# EAGLE library part IR2104 (library IR2104)
HALF BRIDGE DRIVER Check availability <https://pricing.snapeda.com/parts/IR2104/Infineon/view-part?ref=eda>
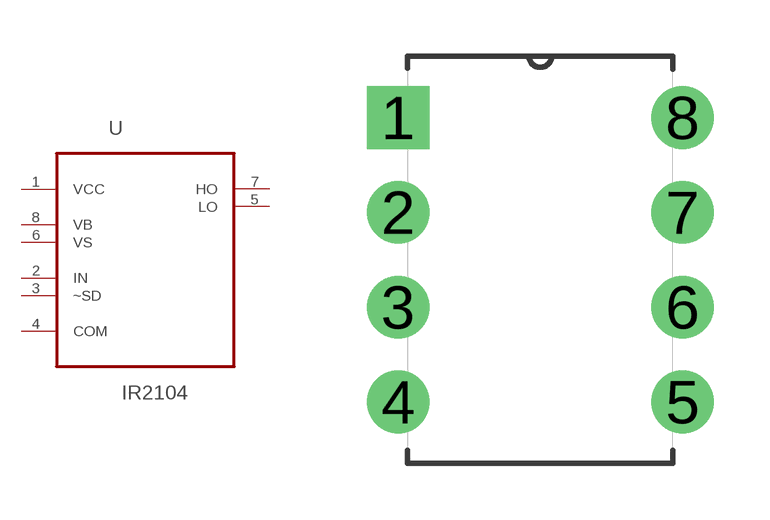
[diagram p0: symbol with the pads of DIP254P762X533-8; footprint DIP254P762X533-8]

Designator prefix U

## IR2104 (Availability: In Stock; Check_prices: https://www.snapeda.com/parts/IR2104/Infineon+Technologies/view-part/?ref=eda; Description: Half-Bridge Gate Driver IC Non-Inverting 8-PDIP; MF: Infineon; MP: IR2104; Package: DIP-8 International Rectifier; Price: None; Purchase-URL: https://www.snapeda.com/api/url_track_click_mouser/?unipart_id=41872&manufacturer=Infineon&part_name=IR2104&search_term=None; SnapEDA_Link: https://www.snapeda.com/parts/IR2104/Infineon+Technologies/view-part/?ref=snap)  [DIP254P762X533-8]
1  VCC  pwr
2  IN  in
3  ~SD  in
4  COM  in
5  LO  out
6  VS  pwr
7  HO  out
8  VB  pwr

## Footprint DIP254P762X533-8 (pad centres in mm)
drill 1.118 square: 1 -7.62,7.62
drill 1.118: 2 -7.62,5.08; 3 -7.62,2.54; 4 -7.62,0; 5 0,0; 6 0,2.54; 7 0,5.08; 8 0,7.62